# Altium footprint library TE_5-1814832-2.PcbLib: 1 footprints
Each footprint in its own frame and in the unit in brackets; x right, y up, seen from the top. Pads: shape width x height; smd on the part's side, far side on the other; paste and mask are expansions set on the pad; w line width, h text height; cw(c..) or ccw(c..) is an arc to the next point about the centre after c.
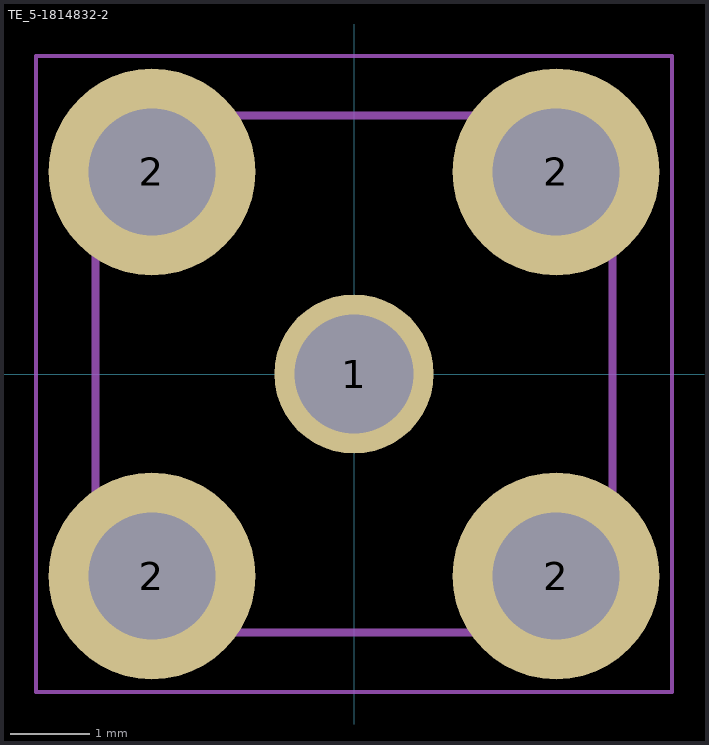
[diagram p0: the footprint, top view; thin cyan lines are the x and y axes]

## TE_5-1814832-2 [mm] "TE_5-1814832-2"
height 9.6
pads (5):
  round 2 hole 1.5: 1(0,0)
  round 2.6 hole 1.6: 2(-2.54,-2.54) 2(-2.54,2.54) 2(2.54,-2.54) 2(2.54,2.54)
Mechanical 13:
  lines w0.1: -3.25,-3.25 3.25,-3.25 3.25,3.25 -3.25,3.25 -3.25,-3.25
Mechanical 15:
  lines w0.05: -4,-4 4,-4 4,4 -4,4 -4,-4
  lines w0.1: -0.5,0 0.5,0 ; 0,-0.5 0,0.5
3D body "5-1814832-2.stp": height 11, standoff -2.5, extent -3.165,-3.19 3.235,3.21